# EAGLE library part HCPL-2211-300E (library HCPL-2211-300E)
Broadcom, HCPL-2211-300E DC Input Logic Gate Output Optocoupler, Surface Mount, 8-Pin DIP Source: Datasheet <https://docs.broadcom.com/doc/Very-High-CMR-Wide-VCC-Logic-Gate-Optocouplers-DS>
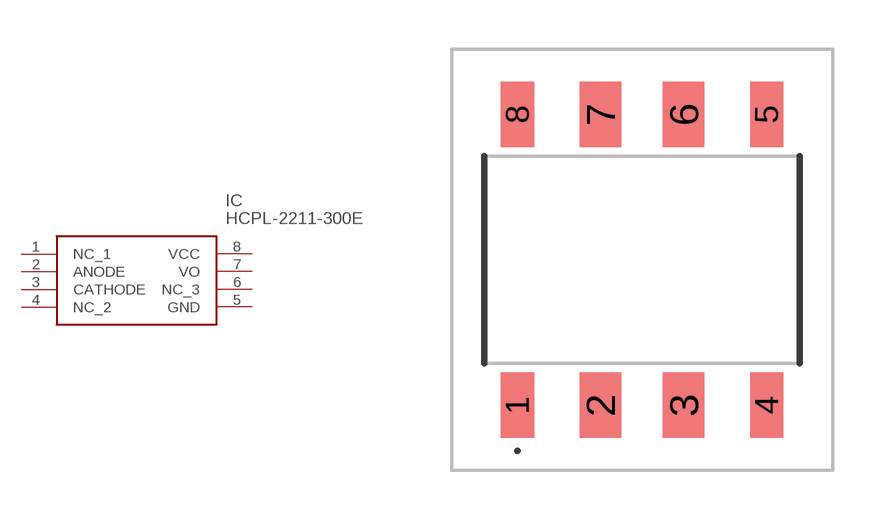
[diagram p0: symbol with the pads of 6N137; footprint 6N137]

Designator prefix IC

## HCPL-2211-300E (Description: Broadcom, HCPL-2211-300E DC Input Logic Gate Output Optocoupler, Surface Mount, 8-Pin DIP; Height: 4.455mm; Manufacturer_Name: Avago Technologies; Manufacturer_Part_Number: HCPL-2211-300E; Mouser_Part_Number: 630-HCPL-2211-300E; Mouser_Price-Stock: https://www.mouser.co.uk/ProductDetail/Broadcom-Avago/HCPL-2211-300E?qs=xnajaXqBF9%252BPSYdymxWXoA%3D%3D)  [6N137]
1  NC_1
2  ANODE
3  CATHODE
4  NC_2
5  GND
6  NC_3
7  VO
8  VCC

## Footprint 6N137 (pad centres in mm)
8-Pin DIP Package with Gull Wing Surface Mount Option 300(H=4.45mm)
smd 1.016 x 2: 1 -3.81,-4.45; 4 3.81,-4.45; 5 3.81,4.45; 8 -3.81,4.45
smd 1.27 x 2: 2 -1.27,-4.45; 3 1.27,-4.45; 6 1.27,4.45; 7 -1.27,4.45